# Altium schematic symbol library CSD19503KCS.SchLib: 1 symbol
Pins are listed as number, name and electrical type; pins without a type are passive.

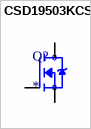
[diagram p0: symbol CSD19503KCS]

## CSD19503KCS
designator Q?
80-V, N channel NexFETâ„¢ power MOSFET, single TO-220, 9.2 mOhm; MP: CSD19503KCS; MF: Texas Instruments; SnapEDA_Link: https://www.snapeda.com/parts/CSD19503KCS/Texas+Instruments/view-part/?ref=snap; Package: TO-220-3 Texas Instruments; Check_prices: https://www.snapeda.com/parts/CSD19503KCS/Texas+Instruments/view-part/?ref=eda; Purchase-URL: https://pricing.snapeda.com/search/part/CSD19503KCS/?ref=eda; Price: None; Value: *; Availability: In Stock
footprint TO254P1036X470X1965-3
pins: 1 G, 2 D, 3 S